# EAGLE library part LT3080 (library IC)
Digi-Key Part Number LT3080EMS8E#PBF-ND,Manufacturer Linear Technology,Manufacturer Part Number LT3080EMS8E#PBF,Description IC REG LDO ADJ 1.1A 8-MSOP,Voltage - Output Adj to 36V, Voltage - Input 1.2 V ~ 36 V, Voltage - Dropout (Typical) 1.35V @ 1.1A, Current - Output 1.1A, Current - Limit (Min) 1.1A, Operating Temperature -40°C ~ 125°C, Mounting Type Surface Mount, Supplier Device Package 8-MSOP-EP
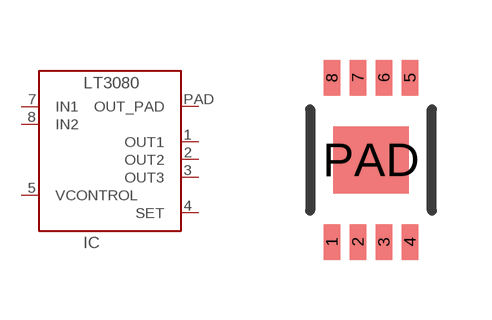
[diagram p193: symbol with the pads of MSOP-8-EP; footprint MSOP-8-EP]

Designator prefix IC

## LT3080  [MSOP-8-EP]
1  OUT1
2  OUT2
3  OUT3
4  SET
5  VCONTROL
7  IN1
8  IN2
PAD  OUT_PAD

## Footprint MSOP-8-EP (pad centres in mm)
smd 0.419 x 0.889: 1 -0.975,-2.057; 2 -0.325,-2.057; 3 0.325,-2.057; 4 0.975,-2.057; 5 0.975,2.057; 6 0.325,2.057; 7 -0.325,2.057; 8 -0.975,2.057
smd 1.88 x 1.676: PAD 0,0